# Altium footprint library PcbLib1.PcbLib: 7 footprints
Each footprint in its own frame and in the unit in brackets; x right, y up, seen from the top. Pads: shape width x height; smd on the part's side, far side on the other; paste and mask are expansions set on the pad; w line width, h text height; cw(c..) or ccw(c..) is an arc to the next point about the centre after c.
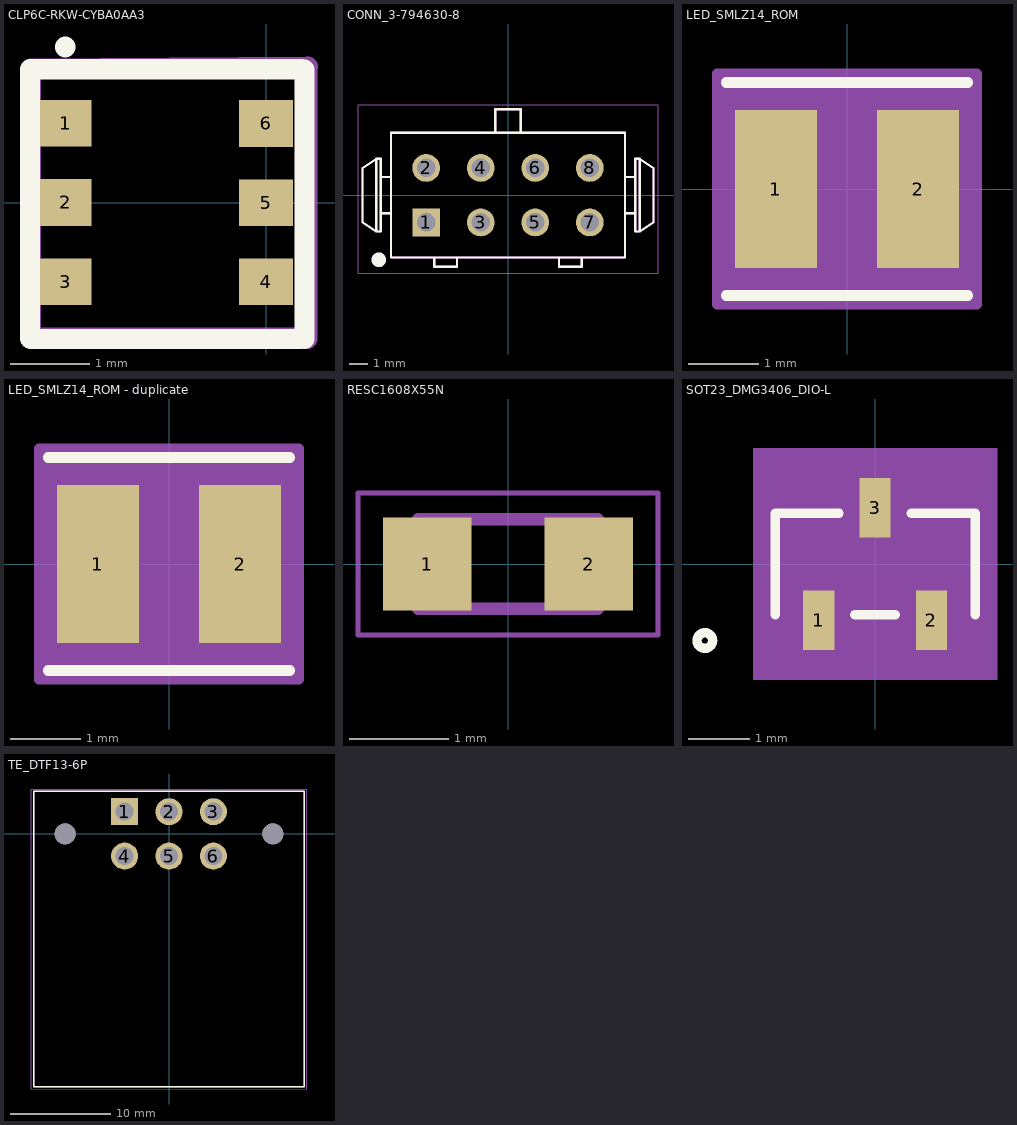
[diagram p0: the footprints below, top view; thin cyan lines are the x and y axes]

## CLP6C-RKW-CYBA0AA3 [mm] "LED RED CLEAR 6PLCC SMD"
height 0.254
pads (6):
  rect 0.65x0.59 smd: 1(-2.529,1.002) 2(-2.529,0.002) 3(-2.529,-0.998)
  rect 0.68x0.59 smd: 4(0,-1) 5(0,0) 6(0,1)
Top Overlay:
  lines w0.254: -2.981,-1.716 -2.981,1.684 ; -2.973,-1.722 0.427,-1.722 ; -2.952,1.684 0.448,1.684 ; -2.537,1.958 ccw(c-2.629,1.973) -2.535,1.973 ; 0.483,-1.722 0.483,1.678
Mechanical 1:
  lines w0.254: 0.429,-1.706 -2.971,-1.706 -2.971,1.694 0.529,1.716 ; 0.52,-1.722 0.52,1.678
3D body "Cree_PLCC6.stp": height 2.81, standoff 0.01, extent -3.021,-1.706 0.479,1.694

## CONN_3-794630-8 [mm]
pads (8):
  rect 1.53x1.53 hole 1.02: 1(-4.5,-1.5)
  round 1.53 hole 1.02: 2(-4.5,1.5) 3(-1.5,-1.5) 4(-1.5,1.5) 5(1.5,-1.5) 6(1.5,1.5) 7(4.5,-1.5) 8(4.5,1.5)
Top Overlay:
  circle w0.4: c-7.101,-3.551 r0.2
  lines w0.127: -6.5,-1 -7,-1 ; -6.5,1 -7,1 ; -4.05,-3.5 -4.05,-3.94 -2.8,-3.94 -2.8,-3.5 ; -0.7,3.5 -0.7,4.73 0.7,4.73 0.7,3.5 ; 2.8,-3.5 2.8,-3.94 4.05,-3.94 4.05,-3.5 ; 6.5,-1 7,-1 ; 6.5,1 7,1 ; -7.25,-2 -7.25,2 ; -7.25,-2 -7,-2 -7,-1 ; -7.25,-2 -8,-1.5 -8,1.5 -7.25,2 ; -7.25,2 -7,2 -7,1 ; -7,-1 -7,1 ; 7,-1 7,1 ; 7,-1 7,-2 7.25,-2 ; 7,1 7,2 7.25,2 ; 7.25,-2 7.25,2 ; 7.25,-2 8,-1.5 8,1.5 7.25,2 ; -6.43,-3.43 -6.43,3.43 6.43,3.43 6.43,-3.43 -6.43,-3.43
Mechanical 13:
  lines w0.127: -6.5,-1 -7,-1 ; -6.5,1 -7,1 ; -4.05,-3.5 -4.05,-3.94 -2.8,-3.94 -2.8,-3.5 ; -0.7,3.5 -0.7,4.73 0.7,4.73 0.7,3.5 ; 2.8,-3.5 2.8,-3.94 4.05,-3.94 4.05,-3.5 ; 6.5,-1 7,-1 ; 6.5,1 7,1 ; -7.25,-2 -7.25,2 ; -7.25,-2 -7,-2 -7,-1 ; -7.25,-2 -8,-1.5 -8,1.5 -7.25,2 ; -7.25,2 -7,2 -7,1 ; -7,-1 -7,1 ; 7,-1 7,-2 7.25,-2 ; 7,-1 7,1 ; 7,1 7,2 7.25,2 ; 7.25,-2 7.25,2 ; 7.25,-2 8,-1.5 8,1.5 7.25,2 ; -6.43,-3.43 -6.43,3.43 6.43,3.43 6.43,-3.43 -6.43,-3.43
Mechanical 15:
  lines w0.05: -8.25,-4.3 -8.25,4.98 8.25,4.98 8.25,-4.3 -8.25,-4.3
3D body "3-794630-8.stp": height 9.2, standoff -3.22, extent -8.129,-4.174 7.871,4.496

## LED_SMLZ14_ROM [mil]
pads (2):
  rect 46x89 smd paste+0 mask+0: 1(-40,0) 2(40,0)
Top Overlay:
  lines w6: -68,-60 68,-60 ; -68,60 68,60
Mechanical 5:
  region: 70.5,-62.5 -70.5,-62.5 -70.5,62.5 70.5,62.5
Mechanical 13:
  circle w0: c0,0 r47.24
  lines w1: -63,-27.5 -35.5,-55 ; -63,27.5 -35.5,55 ; -63,-55 63,-55 63,55 -63,55 -63,-55 ; -63,-43.5 -63,43.5 -63,-43.5 ; 63,-43.5 63,43.5 63,-43.5
Mechanical 15:
  region: 73,-65 -73,-65 -73,65 73,65
  lines w6: -73,-65 -73,65 73,65 73,-65 -73,-65
3D body "LED PLCC-2.stp": height 64.98, standoff 0, extent -68.87,-55.12 68.87,55.12
3D body: height 10, standoff 0, extent 0,0 10,10

## LED_SMLZ14_ROM - duplicate [mil]
pads (2):
  rect 46x89 smd paste+0 mask+0: 1(-40,0) 2(40,0)
Top Overlay:
  lines w6: -68,-60 68,-60 ; -68,60 68,60
Mechanical 5:
  region: 70.5,-62.5 -70.5,-62.5 -70.5,62.5 70.5,62.5
Mechanical 13:
  circle w0: c0,0 r47.24
  lines w1: -63,-27.5 -35.5,-55 ; -63,27.5 -35.5,55 ; -63,-55 -63,55 63,55 63,-55 -63,-55 ; -63,-43.5 -63,43.5 -63,-43.5 ; 63,-43.5 63,43.5 63,-43.5
Mechanical 15:
  region: 73,-65 -73,-65 -73,65 73,65
  lines w6: -73,-65 73,-65 73,65 -73,65 -73,-65
3D body: height 10, standoff 0, extent 0,0 10,10

## RESC1608X55N [mm]
pads (2):
  rect 0.89x0.93 smd: 1(-0.814,0) 2(0.814,0)
Mechanical 13:
  lines w0.127: -0.9,-0.45 -0.9,0.45 0.9,0.45 0.9,-0.45 -0.9,-0.45
Mechanical 15:
  lines w0.05: -1.508,-0.715 -1.508,0.715 1.508,0.715 1.508,-0.715 -1.508,-0.715
3D body "0603.step": height 0.45, standoff 0, extent -0.8,-0.4 0.8,0.4

## SOT23_DMG3406_DIO-L [mil]
pads (3):
  rect 20x38 smd paste+0 mask+0: 1(-36.02,-36) 2(36.02,-36) 3(0,36)
Top Overlay:
  circle w6: c-109,-49 r5
  lines w6: -64,-32.5 -64,32.5 -23.1,32.5 ; -12.92,-32.5 12.92,-32.5 ; 23.1,32.5 64,32.5 64,-32.5
Mechanical 5:
  region: -78,74 78,74 78,-74 -78,-74
Mechanical 13:
  circle w0: c-49,-17.5 r5
  lines w1: -59,-27.5 59,-27.5 59,27.5 -59,27.5 -59,-27.5 ; -46.02,-49 -46.02,-27.5 -26.02,-27.5 -26.02,-49 -46.02,-49 ; -10,27.5 10,27.5 10,49 -10,49 -10,27.5 ; 26.02,-49 26.02,-27.5 46.02,-27.5 46.02,-49 26.02,-49
Mechanical 15:
  region: -63,-31.5 -63,31.5 -14,31.5 -14,59 14,59 14,31.5 63,31.5 63,-31.5 50.02,-31.5 50.02,-59 -50.02,-59 -50.02,-31.5
  region: 59,-27.5 -59,-27.5 -59,27.5 59,27.5
  lines w6: -63,-31.5 -63,31.5 -14,31.5 -14,59 14,59 14,31.5 63,31.5 63,-31.5 50.02,-31.5 50.02,-59 -50.02,-59 -50.02,-31.5 -63,-31.5
3D body "SOT23_DMG3406_DIO.step": height 43.11, standoff 0, extent -59.02,-49.02 59.02,49.02

## TE_DTF13-6P [mm]
pads (8):
  rect 2.715x2.715 hole 1.81: 1(-4.45,2.225)
  round 2.715 hole 1.81: 2(0,2.225) 3(4.45,2.225) 4(-4.45,-2.225) 5(0,-2.225) 6(4.45,-2.225)
  round 2.1 hole 2.1 unplated: ""(-10.415,0) ""(10.415,0)
Top Overlay:
  lines w0.127: -13.59,-25.34 13.59,-25.34 13.59,4.25 -13.59,4.25 -13.59,-25.34
Mechanical 13:
  lines w0.127: -13.59,-25.34 -13.59,4.25 13.59,4.25 13.59,-25.34 -13.59,-25.34
Mechanical 15:
  lines w0.05: -13.84,-25.59 13.84,-25.56 13.84,4.5 -13.84,4.5 -13.84,-25.59